# EAGLE library part THS3202_D_8 (library Texas Instruments)
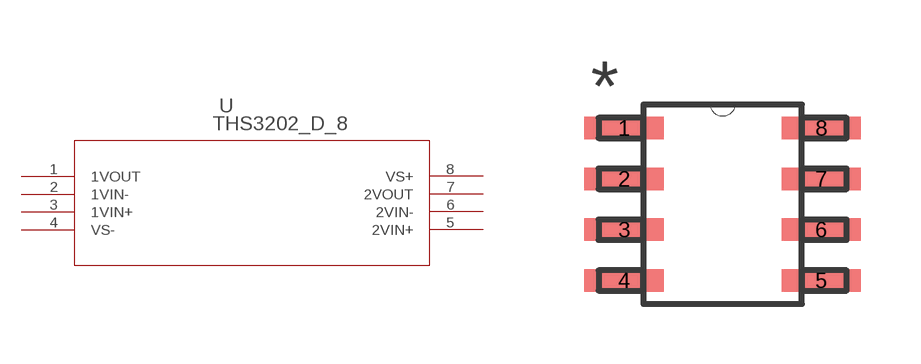
[diagram p15: symbol with the pads of D8; footprint D8]

Designator prefix U

## THS3202_D_8 (DATASHEETURL: http://www.ti.com/lit/gpn/THS3202; DESCRIPTION: 2GHz Current Feedback Amplifier; FAMILY_NAME: CURRENT FEEDBACK; GENERIC_PART_NUMBER: THS3202; INDUSTRY_STD_PKG_TYPE: SOIC; MANUFACTURER: Texas Instruments; MANUFACTURER_PART_NUMBER: ths3202_d_8; PACKAGE_DESIGNATOR: D; PIN_COUNT: 8; VENDOR: Texas Instruments)  [D8]
1  1VOUT  out
2  1VIN-  in
3  1VIN+  in
4  VS-  pwr
5  2VIN+  in
6  2VIN-  in
7  2VOUT  out
8  VS+  pwr

## Footprint D8 (pad centres in mm)
smd 1.981 x 0.559: 1 -2.464,1.905; 2 -2.464,0.635; 3 -2.464,-0.635; 4 -2.464,-1.905; 5 2.464,-1.905; 6 2.464,-0.635; 7 2.464,0.635; 8 2.464,1.905